# Altium integrated library MCP2515_SOIC18-I_SO.IntLib: 1 symbol
Pins are listed as number, name and electrical type; pins without a type are passive.

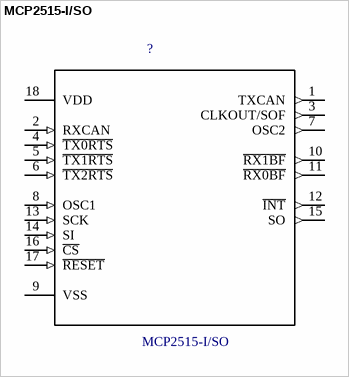
[diagram p0: symbol MCP2515-I/SO]

## MCP2515-I/SO
designator ?
MCP2515 Series 5.5 V 1 Mb/s Stand Alone SPI Interface CAN Controller- SOIC-18; MF: Microchip; Package: SOIC-18 Microchip; MP: MCP2515-I/SO; Price: None; Availability: Unavailable; SnapEDA_Link: https://www.snapeda.com/parts/MCP2515-I/SO/Microchip/view-part/?ref=snap; Value: *
footprint SOIC127P1034X264-18N
pins: 1 TXCAN (out), 2 RXCAN (in), 3 CLKOUT/SOF (out), 4 ~{TX0RTS} (in), 5 ~{TX1RTS} (in), 6 ~{TX2RTS} (in), 7 OSC2 (out), 8 OSC1 (in), 9 VSS (power), 10 ~{RX1BF} (out), 11 ~{RX0BF} (out), 12 ~{INT} (out), 13 SCK (in), 14 SI (in), 15 SO (out), 16 ~{CS} (in), 17 ~{RESET} (in), 18 VDD (power)